# EAGLE library part LEVEL_SHIFTER (library SparkFun-Connectors)
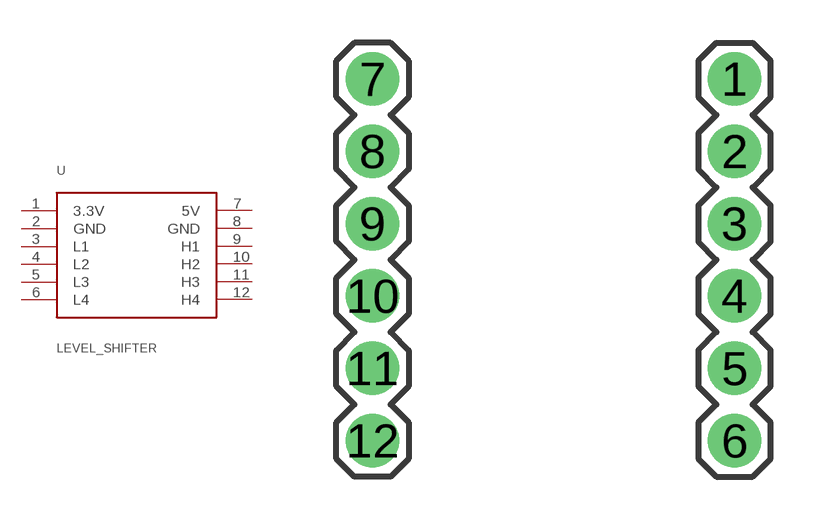
[diagram p86: symbol with the pads of LEVEL_SHIFTER; footprint LEVEL_SHIFTER]

Designator prefix -

## LEVEL_SHIFTER  [LEVEL_SHIFTER]
1  3.3V  pwr
2  GND  pwr
3  L1
4  L2
5  L3
6  L4
7  5V  pwr
8  GND  pwr
9  H1
10  H2
11  H3
12  H4

## Footprint LEVEL_SHIFTER (pad centres in mm)
drill 1.016 pad 1.88: 1 6.35,7.62; 2 6.35,5.08; 3 6.35,2.54; 4 6.35,0; 5 6.35,-2.54; 6 6.35,-5.08; 7 -6.35,7.62; 8 -6.35,5.08; 9 -6.35,2.54; 10 -6.35,0; 11 -6.35,-2.54; 12 -6.35,-5.08